# Altium footprint library QFP_Shrink_Sq_50P_Side_M.PcbLib: 32 footprints (part 3 of 3)
Each footprint in its own frame and in the unit in brackets; x right, y up, seen from the top. Pads: shape width x height; smd on the part's side, far side on the other; paste and mask are expansions set on the pad; w line width, h text height; cw(c..) or ccw(c..) is an arc to the next point about the centre after c.
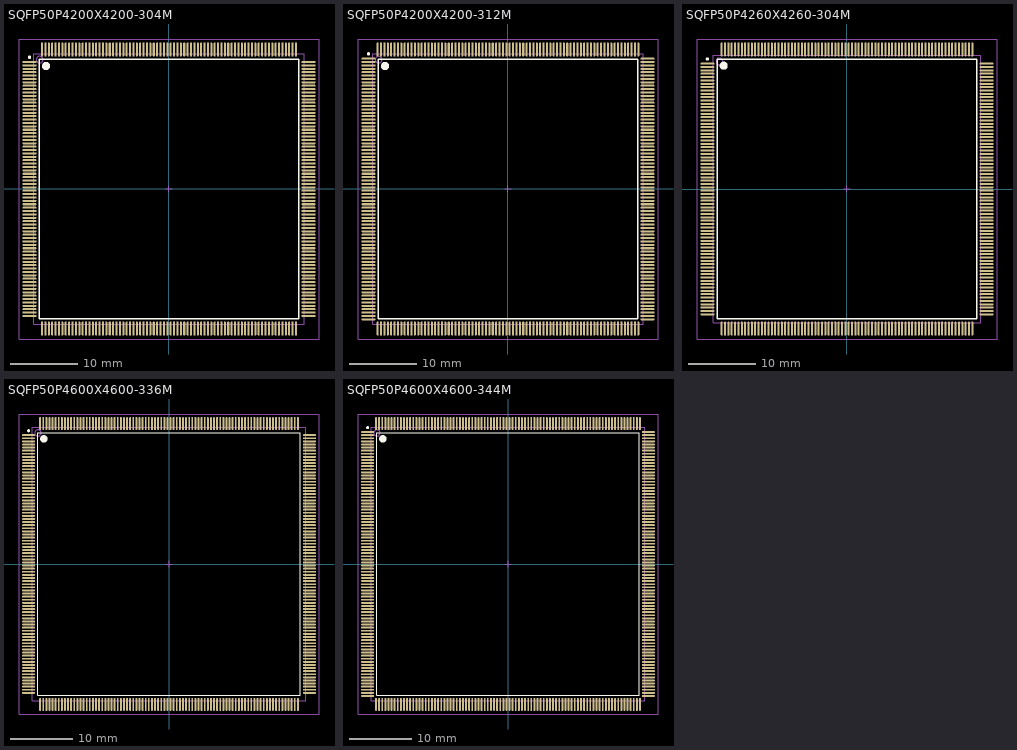
[diagram p2: the footprints below, top view; thin cyan lines are the x and y axes]

## SQFP50P4200X4200-304M [mm] "Shrink QFP, 304-Leads, Body 40x40mm, Pitch 0.5mm, IPC Low Density"
height 4.2
pads (304):
  oval 2.1x0.3 smd: 1(-20.6,18.75) 2(-20.6,18.25) 3(-20.6,17.75) 4(-20.6,17.25) 5(-20.6,16.75) 6(-20.6,16.25) 7(-20.6,15.75) 8(-20.6,15.25) 9(-20.6,14.75) 10(-20.6,14.25) 11(-20.6,13.75) 12(-20.6,13.25) 13(-20.6,12.75) 14(-20.6,12.25) 15(-20.6,11.75) 16(-20.6,11.25) 17(-20.6,10.75) 18(-20.6,10.25) 19(-20.6,9.75) 20(-20.6,9.25) 21(-20.6,8.75) 22(-20.6,8.25) 23(-20.6,7.75) 24(-20.6,7.25) 25(-20.6,6.75) 26(-20.6,6.25) 27(-20.6,5.75) 28(-20.6,5.25) 29(-20.6,4.75) 30(-20.6,4.25) 31(-20.6,3.75) 32(-20.6,3.25) 33(-20.6,2.75) 34(-20.6,2.25) 35(-20.6,1.75) 36(-20.6,1.25) 37(-20.6,0.75) 38(-20.6,0.25) 39(-20.6,-0.25) 40(-20.6,-0.75) 41(-20.6,-1.25) 42(-20.6,-1.75) 43(-20.6,-2.25) 44(-20.6,-2.75) 45(-20.6,-3.25) 46(-20.6,-3.75) 47(-20.6,-4.25) 48(-20.6,-4.75) 49(-20.6,-5.25) 50(-20.6,-5.75) 51(-20.6,-6.25) 52(-20.6,-6.75) 53(-20.6,-7.25) 54(-20.6,-7.75) 55(-20.6,-8.25) 56(-20.6,-8.75) 57(-20.6,-9.25) 58(-20.6,-9.75) 59(-20.6,-10.25) 60(-20.6,-10.75) 61(-20.6,-11.25) 62(-20.6,-11.75) 63(-20.6,-12.25) 64(-20.6,-12.75) 65(-20.6,-13.25) 66(-20.6,-13.75) 67(-20.6,-14.25) 68(-20.6,-14.75) 69(-20.6,-15.25) 70(-20.6,-15.75) 71(-20.6,-16.25) 72(-20.6,-16.75) 73(-20.6,-17.25) 74(-20.6,-17.75) 75(-20.6,-18.25) 76(-20.6,-18.75) 153(20.6,-18.75) 154(20.6,-18.25) 155(20.6,-17.75) 156(20.6,-17.25) 157(20.6,-16.75) 158(20.6,-16.25) 159(20.6,-15.75) 160(20.6,-15.25) 161(20.6,-14.75) 162(20.6,-14.25) 163(20.6,-13.75) 164(20.6,-13.25) 165(20.6,-12.75) 166(20.6,-12.25) 167(20.6,-11.75) 168(20.6,-11.25) 169(20.6,-10.75) 170(20.6,-10.25) 171(20.6,-9.75) 172(20.6,-9.25) 173(20.6,-8.75) 174(20.6,-8.25) 175(20.6,-7.75) 176(20.6,-7.25) 177(20.6,-6.75) 178(20.6,-6.25) 179(20.6,-5.75) 180(20.6,-5.25) 181(20.6,-4.75) 182(20.6,-4.25) 183(20.6,-3.75) 184(20.6,-3.25) 185(20.6,-2.75) 186(20.6,-2.25) 187(20.6,-1.75) 188(20.6,-1.25) 189(20.6,-0.75) 190(20.6,-0.25) 191(20.6,0.25) 192(20.6,0.75) 193(20.6,1.25) 194(20.6,1.75) 195(20.6,2.25) 196(20.6,2.75) 197(20.6,3.25) 198(20.6,3.75) 199(20.6,4.25) 200(20.6,4.75) 201(20.6,5.25) 202(20.6,5.75) 203(20.6,6.25) 204(20.6,6.75) 205(20.6,7.25) 206(20.6,7.75) 207(20.6,8.25) 208(20.6,8.75) 209(20.6,9.25) 210(20.6,9.75) 211(20.6,10.25) 212(20.6,10.75) 213(20.6,11.25) 214(20.6,11.75) 215(20.6,12.25) 216(20.6,12.75) 217(20.6,13.25) 218(20.6,13.75) 219(20.6,14.25) 220(20.6,14.75) 221(20.6,15.25) 222(20.6,15.75) 223(20.6,16.25) 224(20.6,16.75) 225(20.6,17.25) 226(20.6,17.75) 227(20.6,18.25) 228(20.6,18.75)
  oval 0.3x2.1 smd: 77(-18.75,-20.6) 78(-18.25,-20.6) 79(-17.75,-20.6) 80(-17.25,-20.6) 81(-16.75,-20.6) 82(-16.25,-20.6) 83(-15.75,-20.6) 84(-15.25,-20.6) 85(-14.75,-20.6) 86(-14.25,-20.6) 87(-13.75,-20.6) 88(-13.25,-20.6) 89(-12.75,-20.6) 90(-12.25,-20.6) 91(-11.75,-20.6) 92(-11.25,-20.6) 93(-10.75,-20.6) 94(-10.25,-20.6) 95(-9.75,-20.6) 96(-9.25,-20.6) 97(-8.75,-20.6) 98(-8.25,-20.6) 99(-7.75,-20.6) 100(-7.25,-20.6) 101(-6.75,-20.6) 102(-6.25,-20.6) 103(-5.75,-20.6) 104(-5.25,-20.6) 105(-4.75,-20.6) 106(-4.25,-20.6) 107(-3.75,-20.6) 108(-3.25,-20.6) 109(-2.75,-20.6) 110(-2.25,-20.6) 111(-1.75,-20.6) 112(-1.25,-20.6) 113(-0.75,-20.6) 114(-0.25,-20.6) 115(0.25,-20.6) 116(0.75,-20.6) 117(1.25,-20.6) 118(1.75,-20.6) 119(2.25,-20.6) 120(2.75,-20.6) 121(3.25,-20.6) 122(3.75,-20.6) 123(4.25,-20.6) 124(4.75,-20.6) 125(5.25,-20.6) 126(5.75,-20.6) 127(6.25,-20.6) 128(6.75,-20.6) 129(7.25,-20.6) 130(7.75,-20.6) 131(8.25,-20.6) 132(8.75,-20.6) 133(9.25,-20.6) 134(9.75,-20.6) 135(10.25,-20.6) 136(10.75,-20.6) 137(11.25,-20.6) 138(11.75,-20.6) 139(12.25,-20.6) 140(12.75,-20.6) 141(13.25,-20.6) 142(13.75,-20.6) 143(14.25,-20.6) 144(14.75,-20.6) 145(15.25,-20.6) 146(15.75,-20.6) 147(16.25,-20.6) 148(16.75,-20.6) 149(17.25,-20.6) 150(17.75,-20.6) 151(18.25,-20.6) 152(18.75,-20.6) 229(18.75,20.6) 230(18.25,20.6) 231(17.75,20.6) 232(17.25,20.6) 233(16.75,20.6) 234(16.25,20.6) 235(15.75,20.6) 236(15.25,20.6) 237(14.75,20.6) 238(14.25,20.6) 239(13.75,20.6) 240(13.25,20.6) 241(12.75,20.6) 242(12.25,20.6) 243(11.75,20.6) 244(11.25,20.6) 245(10.75,20.6) 246(10.25,20.6) 247(9.75,20.6) 248(9.25,20.6) 249(8.75,20.6) 250(8.25,20.6) 251(7.75,20.6) 252(7.25,20.6) 253(6.75,20.6) 254(6.25,20.6) 255(5.75,20.6) 256(5.25,20.6) 257(4.75,20.6) 258(4.25,20.6) 259(3.75,20.6) 260(3.25,20.6) 261(2.75,20.6) 262(2.25,20.6) 263(1.75,20.6) 264(1.25,20.6) 265(0.75,20.6) 266(0.25,20.6) 267(-0.25,20.6) 268(-0.75,20.6) 269(-1.25,20.6) 270(-1.75,20.6) 271(-2.25,20.6) 272(-2.75,20.6) 273(-3.25,20.6) 274(-3.75,20.6) 275(-4.25,20.6) 276(-4.75,20.6) 277(-5.25,20.6) 278(-5.75,20.6) 279(-6.25,20.6) 280(-6.75,20.6) 281(-7.25,20.6) 282(-7.75,20.6) 283(-8.25,20.6) 284(-8.75,20.6) 285(-9.25,20.6) 286(-9.75,20.6) 287(-10.25,20.6) 288(-10.75,20.6) 289(-11.25,20.6) 290(-11.75,20.6) 291(-12.25,20.6) 292(-12.75,20.6) 293(-13.25,20.6) 294(-13.75,20.6) 295(-14.25,20.6) 296(-14.75,20.6) 297(-15.25,20.6) 298(-15.75,20.6) 299(-16.25,20.6) 300(-16.75,20.6) 301(-17.25,20.6) 302(-17.75,20.6) 303(-18.25,20.6) 304(-18.75,20.6)
Top Overlay:
  circle w0.6: c-18.15,18.15 r0.3
  circle w0.25: c-20.6,19.45 r0.125
  lines w0.2: -19.15,-19.15 19.15,-19.15 19.15,19.15 -19.15,19.15 -19.15,-19.15
Mechanical 13:
  circle w0.1: c-19.1,19.1 r0.5
  lines w0.1: -20,-20 20,-20 20,20 -20,20 -20,-20
Mechanical 15:
  lines w0.1: -0.5,0 0.5,0 ; 0,-0.5 0,0.5 ; -22.15,-22.15 22.15,-22.15 22.15,22.15 -22.15,22.15 -22.15,-22.15
3D body: height 4.2, standoff 0, extent -20,-20 20,20

## SQFP50P4200X4200-312M [mm] "Shrink QFP, 312-Leads, Body 40x40mm, Pitch 0.5mm, IPC Low Density"
height 4.2
pads (312):
  oval 2.1x0.3 smd: 1(-20.6,19.25) 2(-20.6,18.75) 3(-20.6,18.25) 4(-20.6,17.75) 5(-20.6,17.25) 6(-20.6,16.75) 7(-20.6,16.25) 8(-20.6,15.75) 9(-20.6,15.25) 10(-20.6,14.75) 11(-20.6,14.25) 12(-20.6,13.75) 13(-20.6,13.25) 14(-20.6,12.75) 15(-20.6,12.25) 16(-20.6,11.75) 17(-20.6,11.25) 18(-20.6,10.75) 19(-20.6,10.25) 20(-20.6,9.75) 21(-20.6,9.25) 22(-20.6,8.75) 23(-20.6,8.25) 24(-20.6,7.75) 25(-20.6,7.25) 26(-20.6,6.75) 27(-20.6,6.25) 28(-20.6,5.75) 29(-20.6,5.25) 30(-20.6,4.75) 31(-20.6,4.25) 32(-20.6,3.75) 33(-20.6,3.25) 34(-20.6,2.75) 35(-20.6,2.25) 36(-20.6,1.75) 37(-20.6,1.25) 38(-20.6,0.75) 39(-20.6,0.25) 40(-20.6,-0.25) 41(-20.6,-0.75) 42(-20.6,-1.25) 43(-20.6,-1.75) 44(-20.6,-2.25) 45(-20.6,-2.75) 46(-20.6,-3.25) 47(-20.6,-3.75) 48(-20.6,-4.25) 49(-20.6,-4.75) 50(-20.6,-5.25) 51(-20.6,-5.75) 52(-20.6,-6.25) 53(-20.6,-6.75) 54(-20.6,-7.25) 55(-20.6,-7.75) 56(-20.6,-8.25) 57(-20.6,-8.75) 58(-20.6,-9.25) 59(-20.6,-9.75) 60(-20.6,-10.25) 61(-20.6,-10.75) 62(-20.6,-11.25) 63(-20.6,-11.75) 64(-20.6,-12.25) 65(-20.6,-12.75) 66(-20.6,-13.25) 67(-20.6,-13.75) 68(-20.6,-14.25) 69(-20.6,-14.75) 70(-20.6,-15.25) 71(-20.6,-15.75) 72(-20.6,-16.25) 73(-20.6,-16.75) 74(-20.6,-17.25) 75(-20.6,-17.75) 76(-20.6,-18.25) 77(-20.6,-18.75) 78(-20.6,-19.25) 157(20.6,-19.25) 158(20.6,-18.75) 159(20.6,-18.25) 160(20.6,-17.75) 161(20.6,-17.25) 162(20.6,-16.75) 163(20.6,-16.25) 164(20.6,-15.75) 165(20.6,-15.25) 166(20.6,-14.75) 167(20.6,-14.25) 168(20.6,-13.75) 169(20.6,-13.25) 170(20.6,-12.75) 171(20.6,-12.25) 172(20.6,-11.75) 173(20.6,-11.25) 174(20.6,-10.75) 175(20.6,-10.25) 176(20.6,-9.75) 177(20.6,-9.25) 178(20.6,-8.75) 179(20.6,-8.25) 180(20.6,-7.75) 181(20.6,-7.25) 182(20.6,-6.75) 183(20.6,-6.25) 184(20.6,-5.75) 185(20.6,-5.25) 186(20.6,-4.75) 187(20.6,-4.25) 188(20.6,-3.75) 189(20.6,-3.25) 190(20.6,-2.75) 191(20.6,-2.25) 192(20.6,-1.75) 193(20.6,-1.25) 194(20.6,-0.75) 195(20.6,-0.25) 196(20.6,0.25) 197(20.6,0.75) 198(20.6,1.25) 199(20.6,1.75) 200(20.6,2.25) 201(20.6,2.75) 202(20.6,3.25) 203(20.6,3.75) 204(20.6,4.25) 205(20.6,4.75) 206(20.6,5.25) 207(20.6,5.75) 208(20.6,6.25) 209(20.6,6.75) 210(20.6,7.25) 211(20.6,7.75) 212(20.6,8.25) 213(20.6,8.75) 214(20.6,9.25) 215(20.6,9.75) 216(20.6,10.25) 217(20.6,10.75) 218(20.6,11.25) 219(20.6,11.75) 220(20.6,12.25) 221(20.6,12.75) 222(20.6,13.25) 223(20.6,13.75) 224(20.6,14.25) 225(20.6,14.75) 226(20.6,15.25) 227(20.6,15.75) 228(20.6,16.25) 229(20.6,16.75) 230(20.6,17.25) 231(20.6,17.75) 232(20.6,18.25) 233(20.6,18.75) 234(20.6,19.25)
  oval 0.3x2.1 smd: 79(-19.25,-20.6) 80(-18.75,-20.6) 81(-18.25,-20.6) 82(-17.75,-20.6) 83(-17.25,-20.6) 84(-16.75,-20.6) 85(-16.25,-20.6) 86(-15.75,-20.6) 87(-15.25,-20.6) 88(-14.75,-20.6) 89(-14.25,-20.6) 90(-13.75,-20.6) 91(-13.25,-20.6) 92(-12.75,-20.6) 93(-12.25,-20.6) 94(-11.75,-20.6) 95(-11.25,-20.6) 96(-10.75,-20.6) 97(-10.25,-20.6) 98(-9.75,-20.6) 99(-9.25,-20.6) 100(-8.75,-20.6) 101(-8.25,-20.6) 102(-7.75,-20.6) 103(-7.25,-20.6) 104(-6.75,-20.6) 105(-6.25,-20.6) 106(-5.75,-20.6) 107(-5.25,-20.6) 108(-4.75,-20.6) 109(-4.25,-20.6) 110(-3.75,-20.6) 111(-3.25,-20.6) 112(-2.75,-20.6) 113(-2.25,-20.6) 114(-1.75,-20.6) 115(-1.25,-20.6) 116(-0.75,-20.6) 117(-0.25,-20.6) 118(0.25,-20.6) 119(0.75,-20.6) 120(1.25,-20.6) 121(1.75,-20.6) 122(2.25,-20.6) 123(2.75,-20.6) 124(3.25,-20.6) 125(3.75,-20.6) 126(4.25,-20.6) 127(4.75,-20.6) 128(5.25,-20.6) 129(5.75,-20.6) 130(6.25,-20.6) 131(6.75,-20.6) 132(7.25,-20.6) 133(7.75,-20.6) 134(8.25,-20.6) 135(8.75,-20.6) 136(9.25,-20.6) 137(9.75,-20.6) 138(10.25,-20.6) 139(10.75,-20.6) 140(11.25,-20.6) 141(11.75,-20.6) 142(12.25,-20.6) 143(12.75,-20.6) 144(13.25,-20.6) 145(13.75,-20.6) 146(14.25,-20.6) 147(14.75,-20.6) 148(15.25,-20.6) 149(15.75,-20.6) 150(16.25,-20.6) 151(16.75,-20.6) 152(17.25,-20.6) 153(17.75,-20.6) 154(18.25,-20.6) 155(18.75,-20.6) 156(19.25,-20.6) 235(19.25,20.6) 236(18.75,20.6) 237(18.25,20.6) 238(17.75,20.6) 239(17.25,20.6) 240(16.75,20.6) 241(16.25,20.6) 242(15.75,20.6) 243(15.25,20.6) 244(14.75,20.6) 245(14.25,20.6) 246(13.75,20.6) 247(13.25,20.6) 248(12.75,20.6) 249(12.25,20.6) 250(11.75,20.6) 251(11.25,20.6) 252(10.75,20.6) 253(10.25,20.6) 254(9.75,20.6) 255(9.25,20.6) 256(8.75,20.6) 257(8.25,20.6) 258(7.75,20.6) 259(7.25,20.6) 260(6.75,20.6) 261(6.25,20.6) 262(5.75,20.6) 263(5.25,20.6) 264(4.75,20.6) 265(4.25,20.6) 266(3.75,20.6) 267(3.25,20.6) 268(2.75,20.6) 269(2.25,20.6) 270(1.75,20.6) 271(1.25,20.6) 272(0.75,20.6) 273(0.25,20.6) 274(-0.25,20.6) 275(-0.75,20.6) 276(-1.25,20.6) 277(-1.75,20.6) 278(-2.25,20.6) 279(-2.75,20.6) 280(-3.25,20.6) 281(-3.75,20.6) 282(-4.25,20.6) 283(-4.75,20.6) 284(-5.25,20.6) 285(-5.75,20.6) 286(-6.25,20.6) 287(-6.75,20.6) 288(-7.25,20.6) 289(-7.75,20.6) 290(-8.25,20.6) 291(-8.75,20.6) 292(-9.25,20.6) 293(-9.75,20.6) 294(-10.25,20.6) 295(-10.75,20.6) 296(-11.25,20.6) 297(-11.75,20.6) 298(-12.25,20.6) 299(-12.75,20.6) 300(-13.25,20.6) 301(-13.75,20.6) 302(-14.25,20.6) 303(-14.75,20.6) 304(-15.25,20.6) 305(-15.75,20.6) 306(-16.25,20.6) 307(-16.75,20.6) 308(-17.25,20.6) 309(-17.75,20.6) 310(-18.25,20.6) 311(-18.75,20.6) 312(-19.25,20.6)
Top Overlay:
  circle w0.6: c-18.15,18.15 r0.3
  circle w0.25: c-20.6,19.95 r0.125
  lines w0.2: -19.15,-19.15 19.15,-19.15 19.15,19.15 -19.15,19.15 -19.15,-19.15
Mechanical 13:
  circle w0.1: c-19.1,19.1 r0.5
  lines w0.1: -20,-20 20,-20 20,20 -20,20 -20,-20
Mechanical 15:
  lines w0.1: -0.5,0 0.5,0 ; 0,-0.5 0,0.5 ; -22.15,-22.15 22.15,-22.15 22.15,22.15 -22.15,22.15 -22.15,-22.15
3D body: height 4.2, standoff 0, extent -20,-20 20,20

## SQFP50P4260X4260-304M [mm] "Shrink QFP, 304-Leads, Body 40x40mm, Pitch 0.5mm, IPC Low Density"
height 4.5
pads (304):
  oval 2.1x0.3 smd: 1(-20.9,18.75) 2(-20.9,18.25) 3(-20.9,17.75) 4(-20.9,17.25) 5(-20.9,16.75) 6(-20.9,16.25) 7(-20.9,15.75) 8(-20.9,15.25) 9(-20.9,14.75) 10(-20.9,14.25) 11(-20.9,13.75) 12(-20.9,13.25) 13(-20.9,12.75) 14(-20.9,12.25) 15(-20.9,11.75) 16(-20.9,11.25) 17(-20.9,10.75) 18(-20.9,10.25) 19(-20.9,9.75) 20(-20.9,9.25) 21(-20.9,8.75) 22(-20.9,8.25) 23(-20.9,7.75) 24(-20.9,7.25) 25(-20.9,6.75) 26(-20.9,6.25) 27(-20.9,5.75) 28(-20.9,5.25) 29(-20.9,4.75) 30(-20.9,4.25) 31(-20.9,3.75) 32(-20.9,3.25) 33(-20.9,2.75) 34(-20.9,2.25) 35(-20.9,1.75) 36(-20.9,1.25) 37(-20.9,0.75) 38(-20.9,0.25) 39(-20.9,-0.25) 40(-20.9,-0.75) 41(-20.9,-1.25) 42(-20.9,-1.75) 43(-20.9,-2.25) 44(-20.9,-2.75) 45(-20.9,-3.25) 46(-20.9,-3.75) 47(-20.9,-4.25) 48(-20.9,-4.75) 49(-20.9,-5.25) 50(-20.9,-5.75) 51(-20.9,-6.25) 52(-20.9,-6.75) 53(-20.9,-7.25) 54(-20.9,-7.75) 55(-20.9,-8.25) 56(-20.9,-8.75) 57(-20.9,-9.25) 58(-20.9,-9.75) 59(-20.9,-10.25) 60(-20.9,-10.75) 61(-20.9,-11.25) 62(-20.9,-11.75) 63(-20.9,-12.25) 64(-20.9,-12.75) 65(-20.9,-13.25) 66(-20.9,-13.75) 67(-20.9,-14.25) 68(-20.9,-14.75) 69(-20.9,-15.25) 70(-20.9,-15.75) 71(-20.9,-16.25) 72(-20.9,-16.75) 73(-20.9,-17.25) 74(-20.9,-17.75) 75(-20.9,-18.25) 76(-20.9,-18.75) 153(20.9,-18.75) 154(20.9,-18.25) 155(20.9,-17.75) 156(20.9,-17.25) 157(20.9,-16.75) 158(20.9,-16.25) 159(20.9,-15.75) 160(20.9,-15.25) 161(20.9,-14.75) 162(20.9,-14.25) 163(20.9,-13.75) 164(20.9,-13.25) 165(20.9,-12.75) 166(20.9,-12.25) 167(20.9,-11.75) 168(20.9,-11.25) 169(20.9,-10.75) 170(20.9,-10.25) 171(20.9,-9.75) 172(20.9,-9.25) 173(20.9,-8.75) 174(20.9,-8.25) 175(20.9,-7.75) 176(20.9,-7.25) 177(20.9,-6.75) 178(20.9,-6.25) 179(20.9,-5.75) 180(20.9,-5.25) 181(20.9,-4.75) 182(20.9,-4.25) 183(20.9,-3.75) 184(20.9,-3.25) 185(20.9,-2.75) 186(20.9,-2.25) 187(20.9,-1.75) 188(20.9,-1.25) 189(20.9,-0.75) 190(20.9,-0.25) 191(20.9,0.25) 192(20.9,0.75) 193(20.9,1.25) 194(20.9,1.75) 195(20.9,2.25) 196(20.9,2.75) 197(20.9,3.25) 198(20.9,3.75) 199(20.9,4.25) 200(20.9,4.75) 201(20.9,5.25) 202(20.9,5.75) 203(20.9,6.25) 204(20.9,6.75) 205(20.9,7.25) 206(20.9,7.75) 207(20.9,8.25) 208(20.9,8.75) 209(20.9,9.25) 210(20.9,9.75) 211(20.9,10.25) 212(20.9,10.75) 213(20.9,11.25) 214(20.9,11.75) 215(20.9,12.25) 216(20.9,12.75) 217(20.9,13.25) 218(20.9,13.75) 219(20.9,14.25) 220(20.9,14.75) 221(20.9,15.25) 222(20.9,15.75) 223(20.9,16.25) 224(20.9,16.75) 225(20.9,17.25) 226(20.9,17.75) 227(20.9,18.25) 228(20.9,18.75)
  oval 0.3x2.1 smd: 77(-18.75,-20.9) 78(-18.25,-20.9) 79(-17.75,-20.9) 80(-17.25,-20.9) 81(-16.75,-20.9) 82(-16.25,-20.9) 83(-15.75,-20.9) 84(-15.25,-20.9) 85(-14.75,-20.9) 86(-14.25,-20.9) 87(-13.75,-20.9) 88(-13.25,-20.9) 89(-12.75,-20.9) 90(-12.25,-20.9) 91(-11.75,-20.9) 92(-11.25,-20.9) 93(-10.75,-20.9) 94(-10.25,-20.9) 95(-9.75,-20.9) 96(-9.25,-20.9) 97(-8.75,-20.9) 98(-8.25,-20.9) 99(-7.75,-20.9) 100(-7.25,-20.9) 101(-6.75,-20.9) 102(-6.25,-20.9) 103(-5.75,-20.9) 104(-5.25,-20.9) 105(-4.75,-20.9) 106(-4.25,-20.9) 107(-3.75,-20.9) 108(-3.25,-20.9) 109(-2.75,-20.9) 110(-2.25,-20.9) 111(-1.75,-20.9) 112(-1.25,-20.9) 113(-0.75,-20.9) 114(-0.25,-20.9) 115(0.25,-20.9) 116(0.75,-20.9) 117(1.25,-20.9) 118(1.75,-20.9) 119(2.25,-20.9) 120(2.75,-20.9) 121(3.25,-20.9) 122(3.75,-20.9) 123(4.25,-20.9) 124(4.75,-20.9) 125(5.25,-20.9) 126(5.75,-20.9) 127(6.25,-20.9) 128(6.75,-20.9) 129(7.25,-20.9) 130(7.75,-20.9) 131(8.25,-20.9) 132(8.75,-20.9) 133(9.25,-20.9) 134(9.75,-20.9) 135(10.25,-20.9) 136(10.75,-20.9) 137(11.25,-20.9) 138(11.75,-20.9) 139(12.25,-20.9) 140(12.75,-20.9) 141(13.25,-20.9) 142(13.75,-20.9) 143(14.25,-20.9) 144(14.75,-20.9) 145(15.25,-20.9) 146(15.75,-20.9) 147(16.25,-20.9) 148(16.75,-20.9) 149(17.25,-20.9) 150(17.75,-20.9) 151(18.25,-20.9) 152(18.75,-20.9) 229(18.75,20.9) 230(18.25,20.9) 231(17.75,20.9) 232(17.25,20.9) 233(16.75,20.9) 234(16.25,20.9) 235(15.75,20.9) 236(15.25,20.9) 237(14.75,20.9) 238(14.25,20.9) 239(13.75,20.9) 240(13.25,20.9) 241(12.75,20.9) 242(12.25,20.9) 243(11.75,20.9) 244(11.25,20.9) 245(10.75,20.9) 246(10.25,20.9) 247(9.75,20.9) 248(9.25,20.9) 249(8.75,20.9) 250(8.25,20.9) 251(7.75,20.9) 252(7.25,20.9) 253(6.75,20.9) 254(6.25,20.9) 255(5.75,20.9) 256(5.25,20.9) 257(4.75,20.9) 258(4.25,20.9) 259(3.75,20.9) 260(3.25,20.9) 261(2.75,20.9) 262(2.25,20.9) 263(1.75,20.9) 264(1.25,20.9) 265(0.75,20.9) 266(0.25,20.9) 267(-0.25,20.9) 268(-0.75,20.9) 269(-1.25,20.9) 270(-1.75,20.9) 271(-2.25,20.9) 272(-2.75,20.9) 273(-3.25,20.9) 274(-3.75,20.9) 275(-4.25,20.9) 276(-4.75,20.9) 277(-5.25,20.9) 278(-5.75,20.9) 279(-6.25,20.9) 280(-6.75,20.9) 281(-7.25,20.9) 282(-7.75,20.9) 283(-8.25,20.9) 284(-8.75,20.9) 285(-9.25,20.9) 286(-9.75,20.9) 287(-10.25,20.9) 288(-10.75,20.9) 289(-11.25,20.9) 290(-11.75,20.9) 291(-12.25,20.9) 292(-12.75,20.9) 293(-13.25,20.9) 294(-13.75,20.9) 295(-14.25,20.9) 296(-14.75,20.9) 297(-15.25,20.9) 298(-15.75,20.9) 299(-16.25,20.9) 300(-16.75,20.9) 301(-17.25,20.9) 302(-17.75,20.9) 303(-18.25,20.9) 304(-18.75,20.9)
Top Overlay:
  circle w0.6: c-18.45,18.45 r0.3
  circle w0.25: c-20.9,19.45 r0.125
  lines w0.2: -19.45,-19.45 19.45,-19.45 19.45,19.45 -19.45,19.45 -19.45,-19.45
Mechanical 13:
  circle w0.1: c-19.1,19.1 r0.5
  lines w0.1: -20,-20 20,-20 20,20 -20,20 -20,-20
Mechanical 15:
  lines w0.1: -0.5,0 0.5,0 ; 0,-0.5 0,0.5 ; -22.45,-22.45 22.45,-22.45 22.45,22.45 -22.45,22.45 -22.45,-22.45
3D body: height 4.5, standoff 0, extent -20,-20 20,20

## SQFP50P4600X4600-336M [mm] "Shrink QFP, 336-Leads, Body 44x44mm, Pitch 0.5mm, IPC Low Density"
height 4.2
pads (336):
  oval 2.1x0.3 smd: 1(-22.6,20.75) 2(-22.6,20.25) 3(-22.6,19.75) 4(-22.6,19.25) 5(-22.6,18.75) 6(-22.6,18.25) 7(-22.6,17.75) 8(-22.6,17.25) 9(-22.6,16.75) 10(-22.6,16.25) 11(-22.6,15.75) 12(-22.6,15.25) 13(-22.6,14.75) 14(-22.6,14.25) 15(-22.6,13.75) 16(-22.6,13.25) 17(-22.6,12.75) 18(-22.6,12.25) 19(-22.6,11.75) 20(-22.6,11.25) 21(-22.6,10.75) 22(-22.6,10.25) 23(-22.6,9.75) 24(-22.6,9.25) 25(-22.6,8.75) 26(-22.6,8.25) 27(-22.6,7.75) 28(-22.6,7.25) 29(-22.6,6.75) 30(-22.6,6.25) 31(-22.6,5.75) 32(-22.6,5.25) 33(-22.6,4.75) 34(-22.6,4.25) 35(-22.6,3.75) 36(-22.6,3.25) 37(-22.6,2.75) 38(-22.6,2.25) 39(-22.6,1.75) 40(-22.6,1.25) 41(-22.6,0.75) 42(-22.6,0.25) 43(-22.6,-0.25) 44(-22.6,-0.75) 45(-22.6,-1.25) 46(-22.6,-1.75) 47(-22.6,-2.25) 48(-22.6,-2.75) 49(-22.6,-3.25) 50(-22.6,-3.75) 51(-22.6,-4.25) 52(-22.6,-4.75) 53(-22.6,-5.25) 54(-22.6,-5.75) 55(-22.6,-6.25) 56(-22.6,-6.75) 57(-22.6,-7.25) 58(-22.6,-7.75) 59(-22.6,-8.25) 60(-22.6,-8.75) 61(-22.6,-9.25) 62(-22.6,-9.75) 63(-22.6,-10.25) 64(-22.6,-10.75) 65(-22.6,-11.25) 66(-22.6,-11.75) 67(-22.6,-12.25) 68(-22.6,-12.75) 69(-22.6,-13.25) 70(-22.6,-13.75) 71(-22.6,-14.25) 72(-22.6,-14.75) 73(-22.6,-15.25) 74(-22.6,-15.75) 75(-22.6,-16.25) 76(-22.6,-16.75) 77(-22.6,-17.25) 78(-22.6,-17.75) 79(-22.6,-18.25) 80(-22.6,-18.75) 81(-22.6,-19.25) 82(-22.6,-19.75) 83(-22.6,-20.25) 84(-22.6,-20.75) 169(22.6,-20.75) 170(22.6,-20.25) 171(22.6,-19.75) 172(22.6,-19.25) 173(22.6,-18.75) 174(22.6,-18.25) 175(22.6,-17.75) 176(22.6,-17.25) 177(22.6,-16.75) 178(22.6,-16.25) 179(22.6,-15.75) 180(22.6,-15.25) 181(22.6,-14.75) 182(22.6,-14.25) 183(22.6,-13.75) 184(22.6,-13.25) 185(22.6,-12.75) 186(22.6,-12.25) 187(22.6,-11.75) 188(22.6,-11.25) 189(22.6,-10.75) 190(22.6,-10.25) 191(22.6,-9.75) 192(22.6,-9.25) 193(22.6,-8.75) 194(22.6,-8.25) 195(22.6,-7.75) 196(22.6,-7.25) 197(22.6,-6.75) 198(22.6,-6.25) 199(22.6,-5.75) 200(22.6,-5.25) 201(22.6,-4.75) 202(22.6,-4.25) 203(22.6,-3.75) 204(22.6,-3.25) 205(22.6,-2.75) 206(22.6,-2.25) 207(22.6,-1.75) 208(22.6,-1.25) 209(22.6,-0.75) 210(22.6,-0.25) 211(22.6,0.25) 212(22.6,0.75) 213(22.6,1.25) 214(22.6,1.75) 215(22.6,2.25) 216(22.6,2.75) 217(22.6,3.25) 218(22.6,3.75) 219(22.6,4.25) 220(22.6,4.75) 221(22.6,5.25) 222(22.6,5.75) 223(22.6,6.25) 224(22.6,6.75) 225(22.6,7.25) 226(22.6,7.75) 227(22.6,8.25) 228(22.6,8.75) 229(22.6,9.25) 230(22.6,9.75) 231(22.6,10.25) 232(22.6,10.75) 233(22.6,11.25) 234(22.6,11.75) 235(22.6,12.25) 236(22.6,12.75) 237(22.6,13.25) 238(22.6,13.75) 239(22.6,14.25) 240(22.6,14.75) 241(22.6,15.25) 242(22.6,15.75) 243(22.6,16.25) 244(22.6,16.75) 245(22.6,17.25) 246(22.6,17.75) 247(22.6,18.25) 248(22.6,18.75) 249(22.6,19.25) 250(22.6,19.75) 251(22.6,20.25) 252(22.6,20.75)
  oval 0.3x2.1 smd: 85(-20.75,-22.6) 86(-20.25,-22.6) 87(-19.75,-22.6) 88(-19.25,-22.6) 89(-18.75,-22.6) 90(-18.25,-22.6) 91(-17.75,-22.6) 92(-17.25,-22.6) 93(-16.75,-22.6) 94(-16.25,-22.6) 95(-15.75,-22.6) 96(-15.25,-22.6) 97(-14.75,-22.6) 98(-14.25,-22.6) 99(-13.75,-22.6) 100(-13.25,-22.6) 101(-12.75,-22.6) 102(-12.25,-22.6) 103(-11.75,-22.6) 104(-11.25,-22.6) 105(-10.75,-22.6) 106(-10.25,-22.6) 107(-9.75,-22.6) 108(-9.25,-22.6) 109(-8.75,-22.6) 110(-8.25,-22.6) 111(-7.75,-22.6) 112(-7.25,-22.6) 113(-6.75,-22.6) 114(-6.25,-22.6) 115(-5.75,-22.6) 116(-5.25,-22.6) 117(-4.75,-22.6) 118(-4.25,-22.6) 119(-3.75,-22.6) 120(-3.25,-22.6) 121(-2.75,-22.6) 122(-2.25,-22.6) 123(-1.75,-22.6) 124(-1.25,-22.6) 125(-0.75,-22.6) 126(-0.25,-22.6) 127(0.25,-22.6) 128(0.75,-22.6) 129(1.25,-22.6) 130(1.75,-22.6) 131(2.25,-22.6) 132(2.75,-22.6) 133(3.25,-22.6) 134(3.75,-22.6) 135(4.25,-22.6) 136(4.75,-22.6) 137(5.25,-22.6) 138(5.75,-22.6) 139(6.25,-22.6) 140(6.75,-22.6) 141(7.25,-22.6) 142(7.75,-22.6) 143(8.25,-22.6) 144(8.75,-22.6) 145(9.25,-22.6) 146(9.75,-22.6) 147(10.25,-22.6) 148(10.75,-22.6) 149(11.25,-22.6) 150(11.75,-22.6) 151(12.25,-22.6) 152(12.75,-22.6) 153(13.25,-22.6) 154(13.75,-22.6) 155(14.25,-22.6) 156(14.75,-22.6) 157(15.25,-22.6) 158(15.75,-22.6) 159(16.25,-22.6) 160(16.75,-22.6) 161(17.25,-22.6) 162(17.75,-22.6) 163(18.25,-22.6) 164(18.75,-22.6) 165(19.25,-22.6) 166(19.75,-22.6) 167(20.25,-22.6) 168(20.75,-22.6) 253(20.75,22.6) 254(20.25,22.6) 255(19.75,22.6) 256(19.25,22.6) 257(18.75,22.6) 258(18.25,22.6) 259(17.75,22.6) 260(17.25,22.6) 261(16.75,22.6) 262(16.25,22.6) 263(15.75,22.6) 264(15.25,22.6) 265(14.75,22.6) 266(14.25,22.6) 267(13.75,22.6) 268(13.25,22.6) 269(12.75,22.6) 270(12.25,22.6) 271(11.75,22.6) 272(11.25,22.6) 273(10.75,22.6) 274(10.25,22.6) 275(9.75,22.6) 276(9.25,22.6) 277(8.75,22.6) 278(8.25,22.6) 279(7.75,22.6) 280(7.25,22.6) 281(6.75,22.6) 282(6.25,22.6) 283(5.75,22.6) 284(5.25,22.6) 285(4.75,22.6) 286(4.25,22.6) 287(3.75,22.6) 288(3.25,22.6) 289(2.75,22.6) 290(2.25,22.6) 291(1.75,22.6) 292(1.25,22.6) 293(0.75,22.6) 294(0.25,22.6) 295(-0.25,22.6) 296(-0.75,22.6) 297(-1.25,22.6) 298(-1.75,22.6) 299(-2.25,22.6) 300(-2.75,22.6) 301(-3.25,22.6) 302(-3.75,22.6) 303(-4.25,22.6) 304(-4.75,22.6) 305(-5.25,22.6) 306(-5.75,22.6) 307(-6.25,22.6) 308(-6.75,22.6) 309(-7.25,22.6) 310(-7.75,22.6) 311(-8.25,22.6) 312(-8.75,22.6) 313(-9.25,22.6) 314(-9.75,22.6) 315(-10.25,22.6) 316(-10.75,22.6) 317(-11.25,22.6) 318(-11.75,22.6) 319(-12.25,22.6) 320(-12.75,22.6) 321(-13.25,22.6) 322(-13.75,22.6) 323(-14.25,22.6) 324(-14.75,22.6) 325(-15.25,22.6) 326(-15.75,22.6) 327(-16.25,22.6) 328(-16.75,22.6) 329(-17.25,22.6) 330(-17.75,22.6) 331(-18.25,22.6) 332(-18.75,22.6) 333(-19.25,22.6) 334(-19.75,22.6) 335(-20.25,22.6) 336(-20.75,22.6)
Top Overlay:
  circle w0.6: c-20.15,20.15 r0.3
  circle w0.25: c-22.6,21.45 r0.125
  lines w0.2: -21.15,-21.15 21.15,-21.15 21.15,21.15 -21.15,21.15 -21.15,-21.15
Mechanical 13:
  circle w0.1: c-21.1,21.1 r0.5
  lines w0.1: -22,-22 22,-22 22,22 -22,22 -22,-22
Mechanical 15:
  lines w0.1: -0.5,0 0.5,0 ; 0,-0.5 0,0.5 ; -24.15,-24.15 24.15,-24.15 24.15,24.15 -24.15,24.15 -24.15,-24.15
3D body: height 4.2, standoff 0, extent -22,-22 22,22

## SQFP50P4600X4600-344M [mm] "Shrink QFP, 344-Leads, Body 44x44mm, Pitch 0.5mm, IPC Low Density"
height 4.2
pads (344):
  oval 2.1x0.3 smd: 1(-22.6,21.25) 2(-22.6,20.75) 3(-22.6,20.25) 4(-22.6,19.75) 5(-22.6,19.25) 6(-22.6,18.75) 7(-22.6,18.25) 8(-22.6,17.75) 9(-22.6,17.25) 10(-22.6,16.75) 11(-22.6,16.25) 12(-22.6,15.75) 13(-22.6,15.25) 14(-22.6,14.75) 15(-22.6,14.25) 16(-22.6,13.75) 17(-22.6,13.25) 18(-22.6,12.75) 19(-22.6,12.25) 20(-22.6,11.75) 21(-22.6,11.25) 22(-22.6,10.75) 23(-22.6,10.25) 24(-22.6,9.75) 25(-22.6,9.25) 26(-22.6,8.75) 27(-22.6,8.25) 28(-22.6,7.75) 29(-22.6,7.25) 30(-22.6,6.75) 31(-22.6,6.25) 32(-22.6,5.75) 33(-22.6,5.25) 34(-22.6,4.75) 35(-22.6,4.25) 36(-22.6,3.75) 37(-22.6,3.25) 38(-22.6,2.75) 39(-22.6,2.25) 40(-22.6,1.75) 41(-22.6,1.25) 42(-22.6,0.75) 43(-22.6,0.25) 44(-22.6,-0.25) 45(-22.6,-0.75) 46(-22.6,-1.25) 47(-22.6,-1.75) 48(-22.6,-2.25) 49(-22.6,-2.75) 50(-22.6,-3.25) 51(-22.6,-3.75) 52(-22.6,-4.25) 53(-22.6,-4.75) 54(-22.6,-5.25) 55(-22.6,-5.75) 56(-22.6,-6.25) 57(-22.6,-6.75) 58(-22.6,-7.25) 59(-22.6,-7.75) 60(-22.6,-8.25) 61(-22.6,-8.75) 62(-22.6,-9.25) 63(-22.6,-9.75) 64(-22.6,-10.25) 65(-22.6,-10.75) 66(-22.6,-11.25) 67(-22.6,-11.75) 68(-22.6,-12.25) 69(-22.6,-12.75) 70(-22.6,-13.25) 71(-22.6,-13.75) 72(-22.6,-14.25) 73(-22.6,-14.75) 74(-22.6,-15.25) 75(-22.6,-15.75) 76(-22.6,-16.25) 77(-22.6,-16.75) 78(-22.6,-17.25) 79(-22.6,-17.75) 80(-22.6,-18.25) 81(-22.6,-18.75) 82(-22.6,-19.25) 83(-22.6,-19.75) 84(-22.6,-20.25) 85(-22.6,-20.75) 86(-22.6,-21.25) 173(22.6,-21.25) 174(22.6,-20.75) 175(22.6,-20.25) 176(22.6,-19.75) 177(22.6,-19.25) 178(22.6,-18.75) 179(22.6,-18.25) 180(22.6,-17.75) 181(22.6,-17.25) 182(22.6,-16.75) 183(22.6,-16.25) 184(22.6,-15.75) 185(22.6,-15.25) 186(22.6,-14.75) 187(22.6,-14.25) 188(22.6,-13.75) 189(22.6,-13.25) 190(22.6,-12.75) 191(22.6,-12.25) 192(22.6,-11.75) 193(22.6,-11.25) 194(22.6,-10.75) 195(22.6,-10.25) 196(22.6,-9.75) 197(22.6,-9.25) 198(22.6,-8.75) 199(22.6,-8.25) 200(22.6,-7.75) 201(22.6,-7.25) 202(22.6,-6.75) 203(22.6,-6.25) 204(22.6,-5.75) 205(22.6,-5.25) 206(22.6,-4.75) 207(22.6,-4.25) 208(22.6,-3.75) 209(22.6,-3.25) 210(22.6,-2.75) 211(22.6,-2.25) 212(22.6,-1.75) 213(22.6,-1.25) 214(22.6,-0.75) 215(22.6,-0.25) 216(22.6,0.25) 217(22.6,0.75) 218(22.6,1.25) 219(22.6,1.75) 220(22.6,2.25) 221(22.6,2.75) 222(22.6,3.25) 223(22.6,3.75) 224(22.6,4.25) 225(22.6,4.75) 226(22.6,5.25) 227(22.6,5.75) 228(22.6,6.25) 229(22.6,6.75) 230(22.6,7.25) 231(22.6,7.75) 232(22.6,8.25) 233(22.6,8.75) 234(22.6,9.25) 235(22.6,9.75) 236(22.6,10.25) 237(22.6,10.75) 238(22.6,11.25) 239(22.6,11.75) 240(22.6,12.25) 241(22.6,12.75) 242(22.6,13.25) 243(22.6,13.75) 244(22.6,14.25) 245(22.6,14.75) 246(22.6,15.25) 247(22.6,15.75) 248(22.6,16.25) 249(22.6,16.75) 250(22.6,17.25) 251(22.6,17.75) 252(22.6,18.25) 253(22.6,18.75) 254(22.6,19.25) 255(22.6,19.75) 256(22.6,20.25) 257(22.6,20.75) 258(22.6,21.25)
  oval 0.3x2.1 smd: 87(-21.25,-22.6) 88(-20.75,-22.6) 89(-20.25,-22.6) 90(-19.75,-22.6) 91(-19.25,-22.6) 92(-18.75,-22.6) 93(-18.25,-22.6) 94(-17.75,-22.6) 95(-17.25,-22.6) 96(-16.75,-22.6) 97(-16.25,-22.6) 98(-15.75,-22.6) 99(-15.25,-22.6) 100(-14.75,-22.6) 101(-14.25,-22.6) 102(-13.75,-22.6) 103(-13.25,-22.6) 104(-12.75,-22.6) 105(-12.25,-22.6) 106(-11.75,-22.6) 107(-11.25,-22.6) 108(-10.75,-22.6) 109(-10.25,-22.6) 110(-9.75,-22.6) 111(-9.25,-22.6) 112(-8.75,-22.6) 113(-8.25,-22.6) 114(-7.75,-22.6) 115(-7.25,-22.6) 116(-6.75,-22.6) 117(-6.25,-22.6) 118(-5.75,-22.6) 119(-5.25,-22.6) 120(-4.75,-22.6) 121(-4.25,-22.6) 122(-3.75,-22.6) 123(-3.25,-22.6) 124(-2.75,-22.6) 125(-2.25,-22.6) 126(-1.75,-22.6) 127(-1.25,-22.6) 128(-0.75,-22.6) 129(-0.25,-22.6) 130(0.25,-22.6) 131(0.75,-22.6) 132(1.25,-22.6) 133(1.75,-22.6) 134(2.25,-22.6) 135(2.75,-22.6) 136(3.25,-22.6) 137(3.75,-22.6) 138(4.25,-22.6) 139(4.75,-22.6) 140(5.25,-22.6) 141(5.75,-22.6) 142(6.25,-22.6) 143(6.75,-22.6) 144(7.25,-22.6) 145(7.75,-22.6) 146(8.25,-22.6) 147(8.75,-22.6) 148(9.25,-22.6) 149(9.75,-22.6) 150(10.25,-22.6) 151(10.75,-22.6) 152(11.25,-22.6) 153(11.75,-22.6) 154(12.25,-22.6) 155(12.75,-22.6) 156(13.25,-22.6) 157(13.75,-22.6) 158(14.25,-22.6) 159(14.75,-22.6) 160(15.25,-22.6) 161(15.75,-22.6) 162(16.25,-22.6) 163(16.75,-22.6) 164(17.25,-22.6) 165(17.75,-22.6) 166(18.25,-22.6) 167(18.75,-22.6) 168(19.25,-22.6) 169(19.75,-22.6) 170(20.25,-22.6) 171(20.75,-22.6) 172(21.25,-22.6) 259(21.25,22.6) 260(20.75,22.6) 261(20.25,22.6) 262(19.75,22.6) 263(19.25,22.6) 264(18.75,22.6) 265(18.25,22.6) 266(17.75,22.6) 267(17.25,22.6) 268(16.75,22.6) 269(16.25,22.6) 270(15.75,22.6) 271(15.25,22.6) 272(14.75,22.6) 273(14.25,22.6) 274(13.75,22.6) 275(13.25,22.6) 276(12.75,22.6) 277(12.25,22.6) 278(11.75,22.6) 279(11.25,22.6) 280(10.75,22.6) 281(10.25,22.6) 282(9.75,22.6) 283(9.25,22.6) 284(8.75,22.6) 285(8.25,22.6) 286(7.75,22.6) 287(7.25,22.6) 288(6.75,22.6) 289(6.25,22.6) 290(5.75,22.6) 291(5.25,22.6) 292(4.75,22.6) 293(4.25,22.6) 294(3.75,22.6) 295(3.25,22.6) 296(2.75,22.6) 297(2.25,22.6) 298(1.75,22.6) 299(1.25,22.6) 300(0.75,22.6) 301(0.25,22.6) 302(-0.25,22.6) 303(-0.75,22.6) 304(-1.25,22.6) 305(-1.75,22.6) 306(-2.25,22.6) 307(-2.75,22.6) 308(-3.25,22.6) 309(-3.75,22.6) 310(-4.25,22.6) 311(-4.75,22.6) 312(-5.25,22.6) 313(-5.75,22.6) 314(-6.25,22.6) 315(-6.75,22.6) 316(-7.25,22.6) 317(-7.75,22.6) 318(-8.25,22.6) 319(-8.75,22.6) 320(-9.25,22.6) 321(-9.75,22.6) 322(-10.25,22.6) 323(-10.75,22.6) 324(-11.25,22.6) 325(-11.75,22.6) 326(-12.25,22.6) 327(-12.75,22.6) 328(-13.25,22.6) 329(-13.75,22.6) 330(-14.25,22.6) 331(-14.75,22.6) 332(-15.25,22.6) 333(-15.75,22.6) 334(-16.25,22.6) 335(-16.75,22.6) 336(-17.25,22.6) 337(-17.75,22.6) 338(-18.25,22.6) 339(-18.75,22.6) 340(-19.25,22.6) 341(-19.75,22.6) 342(-20.25,22.6) 343(-20.75,22.6) 344(-21.25,22.6)
Top Overlay:
  circle w0.6: c-20.15,20.15 r0.3
  circle w0.25: c-22.6,21.95 r0.125
  lines w0.2: -21.15,-21.15 21.15,-21.15 21.15,21.15 -21.15,21.15 -21.15,-21.15
Mechanical 13:
  circle w0.1: c-21.1,21.1 r0.5
  lines w0.1: -22,-22 22,-22 22,22 -22,22 -22,-22
Mechanical 15:
  lines w0.1: -0.5,0 0.5,0 ; 0,-0.5 0,0.5 ; -24.15,-24.15 24.15,-24.15 24.15,24.15 -24.15,24.15 -24.15,-24.15
3D body: height 4.2, standoff 0, extent -22,-22 22,22